# Altium schematic symbol library Schlib1.SchLib: 3 symbols
Pins are listed as number, name and electrical type; pins without a type are passive.

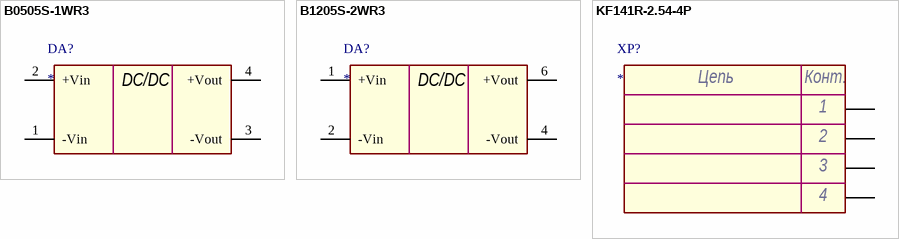
[diagram p0: symbols B0505S-1WR3 to KF141R-2.54-4P]

## B0505S-1WR3
designator DA?
Power Supply; Manufacturer_Name: Mornsun Power; Manufacturer_Part_Number: B0505S-1WR3; Datasheet Link: https://datasheet.lcsc.com/szlcsc/1811151639_MORNSUN-Guangzhou-S-T-B0505S-1WR3_C131038.pdf; Height: 10.16mm
footprint B0505S1WR3
pins: 1 -Vin, 2 +Vin, 3 -Vout, 4 +Vout
text: DC/DC

## B1205S-2WR3
designator DA?
Power Supply; Manufacturer_Name: Mornsun Power; Manufacturer_Part_Number: B1205S-2WR3; Datasheet Link: https://www.mornsun-power.com/html/pdf/B1205S-2WR3.html; Height: 10.41mm
footprint B1205S2WR3
pins: 1 +Vin, 2 -Vin, 4 -Vout, 6 +Vout
text: DC/DC

## KF141R-2.54-4P
designator XP?
footprint CONN-TH_4P-P2.54_KF141R-2.54-4P
pins: 1, 2, 3, 4
text: Цепь; Конт.